# Altium footprint library connector.PcbLib: 49 footprints (part 3 of 4)
Each footprint in its own frame and in the unit in brackets; x right, y up, seen from the top. Pads: shape width x height; smd on the part's side, far side on the other; paste and mask are expansions set on the pad; w line width, h text height; cw(c..) or ccw(c..) is an arc to the next point about the centre after c.
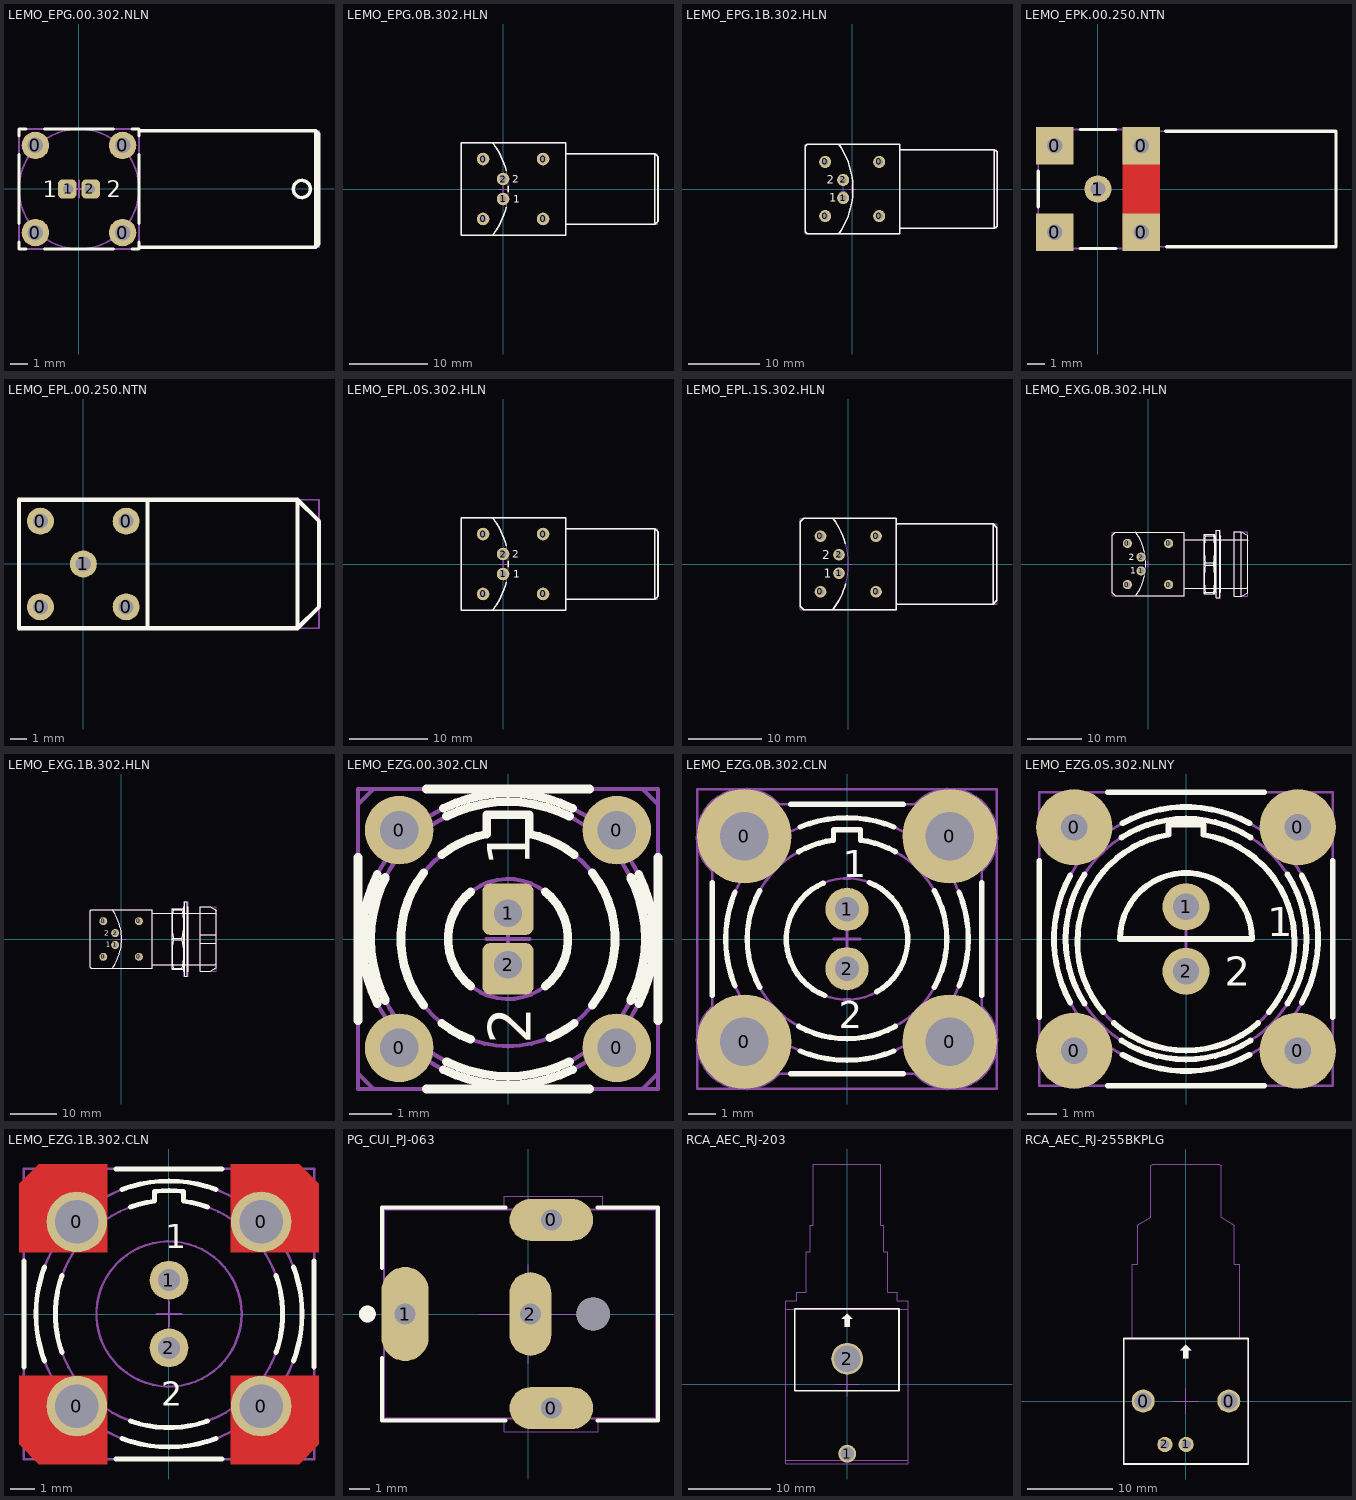
[diagram p2: the footprints below, top view; thin cyan lines are the x and y axes]

## LEMO_EPG.00.302.NLN [mm] "Multipole 2 Contacts, 50 Ohm size 00 Coaxial Elbow (90°) Socket With Key"
height 7
pads (6):
  round 1.6 hole 0.9: 0(-2.54,-2.54) 0(-2.54,2.54) 0(2.54,-2.54) 0(2.54,2.54)
  rrect50% 1.1x1.1 hole 0.6 copper offset -0.05,0: 1(-0.635,0)
  rrect50% 1.1x1.1 hole 0.6 copper offset 0.05,0: 2(0.635,0)
Top Overlay:
  circle w0.2: c13,0 r0.5
  lines w0.2: -3.5,-3.1 -3.5,-3.5 -3.1,-3.5 ; -3.5,-2 -3.5,2 ; -3.5,3.1 -3.5,3.5 -3.1,3.5 ; -2,-3.5 2,-3.5 ; -2,3.5 2,3.5 ; 3.1,-3.5 3.5,-3.5 3.5,-3.1 ; 3.1,3.5 3.5,3.5 3.5,3.1 ; 3.5,-3.4 13.8,-3.4 ; 3.5,-2 3.5,2 ; 3.5,3.399 13.8,3.4 ; 13.8,-3.4 14,-3.2 14,3.2 13.8,3.4 ; 13.8,-3.4 13.8,3.4
  text "1" at -2.119,-0.48 h0.97
  text "2" at 1.613,-0.473 h0.97
Mechanical 1:
  circle w0.1: c0,0 r3.5
  circle w0.1: c13,0 r0.5
  lines w0.1: 3.5,-3.4 13.8,-3.4 ; 3.5,3.399 13.8,3.4 ; 13.8,-3.4 14,-3.2 14,3.2 13.8,3.4 ; 13.8,-3.4 13.8,3.4 ; -3.5,-3.5 3.5,-3.5 3.5,3.5 -3.5,3.5 -3.5,-3.5
  text "1" at -2.119,-0.48 h0.97
  text "2" at 1.613,-0.473 h0.97
Mechanical 15:
  lines w0.1: -0.5,0 0,0 ; 0,-0.5 0,0 ; 0,0.5 0,0 ; 0.5,0 0,0 ; 3.5,-3.4 14,-3.4 14,3.4 ; 3.5,3.399 14,3.4 ; 14,3.4 14,3.4 ; -3.5,-3.5 3.5,-3.5 3.5,3.5 -3.5,3.5 -3.5,-3.5
3D body "LEMO_EPG.00.302.NLN.stp": height 7, standoff -3, extent -3.5,-3.5 14,3.5

## LEMO_EPG.0B.302.HLN [mm] "Elbow Receptacle (90°) With 2 Female Contacts and Key (G) For PCB"
height 12.7
pads (6):
  round 1.6 hole 0.9: 0(-2.54,-3.81) 0(-2.54,3.81) 0(5.08,-3.81) 0(5.08,3.81) 1(0,-1.27) 2(0,1.27)
Top Overlay:
  lines w0.2: -1.32,-5.85 ccw(c-8.876,0) 0.386,-2.353 ; -1.32,5.85 cw(c-8.876,0) 0.386,2.353 ; 0.674,-0.338 ccw(c-8.876,0) 0.674,0.338 ; 7.98,-4.5 19.28,-4.5 ; 7.98,4.5 19.28,4.5 ; 19.28,-4.5 19.28,4.5 ; 19.28,-4.5 19.68,-4.1 19.68,4.1 19.28,4.5 ; -5.32,-5.85 7.98,-5.85 7.98,5.85 -5.32,5.85 -5.32,-5.85
  text "1" at 1.275,-1.75 h0.97
  text "2" at 1.186,0.787 h0.97
Mechanical 1:
  circle w0.1: c-2.54,3.81 r0.4
  circle w0.1: c-2.54,-3.81 r0.4
  circle w0.1: c0,-1.27 r0.4
  circle w0.1: c0,1.27 r0.4
  circle w0.1: c5.08,3.81 r0.4
  circle w0.1: c5.08,-3.81 r0.4
  lines w0.1: -1.32,-5.85 ccw(c-8.876,0) -1.32,5.85 ; 7.98,-4.5 19.28,-4.5 ; 7.98,4.5 19.28,4.5 ; 19.28,-4.5 19.28,4.5 ; 19.28,-4.5 19.68,-4.1 19.68,4.1 19.28,4.5 ; -5.32,-5.85 -5.32,5.85 7.98,5.85 7.98,-5.85 -5.32,-5.85
  text "1" at 1.275,-1.75 h0.97
  text "2" at 1.186,0.787 h0.97
Mechanical 15:
  lines w0.1: -0.5,0 0,0 ; 0,-0.5 0,0 ; 0,0.5 0,0 ; 0.5,0 0,0 ; 7.975,-4.5 19.675,-4.5 19.675,4.5 7.975,4.5 ; -5.325,-5.85 7.975,-5.85 7.975,5.85 -5.325,5.85 -5.325,-5.85
3D body "LEMO_EPG.0B.302.HLN.stp": height 12.7, standoff -4, extent -5.32,-5.85 19.68,5.85

## LEMO_EPG.1B.302.HLN [mm] "Elbow Receptacle (90°) With 2 Female Contacts and Key For PCB"
height 14
pads (6):
  round 1.7 hole 1: 0(-3.81,-3.81) 0(-3.81,3.81) 0(3.81,-3.81) 0(3.81,3.81) 1(-1.27,-1.27) 2(-1.27,1.27)
Top Overlay:
  lines w0.2: -1.875,-6.3 ccw(c-10.879,0) -1.875,6.3 ; 6.71,-5.5 20.01,-5.5 ; 6.71,5.5 20.01,5.5 ; 20.01,-5.5 20.01,5.5 ; 20.01,-5.5 20.41,-5.26 20.41,5.26 20.01,5.5 ; -6.59,-6.05 -6.34,-6.3 6.71,-6.3 6.71,6.3 -6.34,6.3 -6.59,6.05 -6.59,-6.05
  text "2" at -3.577,0.712 h1.2
  text "1" at -3.237,-1.788 h1.2
Mechanical 1:
  lines w0.1: -1.875,-6.3 ccw(c-10.879,0) -1.875,6.3 ; -1.8,-0.591 cw(c-1.27,-1.121) -0.74,-0.591 ; -1.27,-0.371 -1.27,0.52 ; 6.71,-5.5 20.01,-5.5 ; 6.71,5.5 20.01,5.5 ; 20.01,-5.5 20.01,5.5 ; 20.01,-5.5 20.41,-5.26 20.41,5.26 20.01,5.5 ; -6.59,-6.05 -6.59,6.05 -6.34,6.3 6.71,6.3 6.71,-6.3 -6.34,-6.3 -6.59,-6.05
  text "2" at -3.577,0.712 h1.2
  text "1" at -3.237,-1.788 h1.2
Mechanical 15:
  lines w0.1: -0.5,0 0,0 ; 0,-0.5 0,0 ; 0,0.5 0,0 ; 0.5,0 0,0 ; 6.705,-5.497 20.406,-5.497 20.406,5.503 6.705,5.503 ; -6.595,-6.297 -6.595,6.303 6.705,6.303 6.705,-6.297 -6.595,-6.297
3D body "LEMO_EPG.1B.302.HLN.stp": height 14, standoff -3.2, extent -6.59,-6.3 20.41,6.3

## LEMO_EPK.00.250.NTN [mm] "50 Ohm size 00 Coaxial Elbow (90°) socket"
height 7
pads (5):
  rect 2.2x2.2 / inner round 1.6 / far side round 1.6 hole 0.9: 0(-2.54,-2.54) 0(-2.54,2.54) 0(2.54,-2.54) 0(2.54,2.54)
  round 1.6 hole 0.9: 1(0,0)
Top Layer:
  rectangle: 1.44,-3.64 3.64,3.64
Top Overlay:
  lines w0.2: -3.5,-1.05 -3.5,1.05 ; -1.05,-3.5 1.05,-3.5 ; -1.05,3.5 1.05,3.5 ; 4,3.4 14,3.4 14,-3.4 4.05,-3.4
Mechanical 1:
  lines w0.1: 1.5,-3.5 3.5,-3.5 ; 3.5,-3.4 14,-3.4 14,3.4 3.5,3.4 ; 3.5,-3.5 3.5,3.5 ; 3.5,-3.5 -3.5,-3.5 -3.5,3.5 3.5,3.5 ; 3.5,-3.5 3.5,3.5
Mechanical 15:
  lines w0.1: -0.5,0 0,0 ; 0,-0.5 0,0 ; 0,0.5 0,0 ; 0.5,0 0,0 ; 1.5,-3.5 3.5,-3.5 ; 3.5,-3.4 14,-3.4 14,3.4 3.5,3.4 ; 3.5,-3.5 3.5,3.5 ; 3.5,-3.5 -3.5,-3.5 -3.5,3.5 3.5,3.5 ; 3.5,-3.5 3.5,3.5
3D body "LEMO_EPK.00.250.NTN.stp": height 7, standoff -3, extent -3.5,-3.5 14,3.5

## LEMO_EPL.00.250.NTN [mm] "50 Ohm size 00 Coaxial Elbow (90°) socket"
height 7
pads (5):
  round 1.6 hole 0.9: 0(-2.54,-2.54) 0(-2.54,2.54) 0(2.54,-2.54) 0(2.54,2.54) 1(0,0)
Top Overlay:
  lines w0.254: 3.81,-3.81 -3.81,-3.81 -3.81,3.81 3.81,3.81 ; 3.81,-3.81 3.81,3.81 ; 3.81,-3.81 12.7,-3.81 ; 3.81,3.81 12.7,3.81 ; 12.7,-3.81 12.7,3.81 ; 12.7,-3.81 13.97,-2.54 13.97,2.54 12.7,3.81
Mechanical 1:
  lines w0.1: 3.81,-3.81 12.7,-3.81 ; 3.81,-3.81 -3.81,-3.81 -3.81,3.81 3.81,3.81 ; 3.81,-3.81 3.81,3.81 ; 3.81,3.81 12.7,3.81 ; 12.7,-3.81 12.7,3.81 ; 12.7,-3.81 13.97,-2.54 13.97,2.54 12.7,3.81
Mechanical 15:
  lines w0.1: -0.5,0 0,0 ; 0,-0.5 0,0 ; 0,0.5 0,0 ; 0.5,0 0,0 ; 3.81,-3.81 3.81,3.81 ; 3.81,-3.81 -3.81,-3.81 -3.81,3.81 3.81,3.81 ; 3.81,-3.81 13.97,-3.81 13.97,3.81 13.652,3.81 3.81,3.81
3D body "LEMO_EPL.00.250.NTN.stp": height 7, standoff -3, extent -3.5,-3.5 14,3.5

## LEMO_EPL.0S.302.HLN [mm] "Elbow Receptacle (90°) With 1 Female + 1 Male Contacts and Hermaphroditic Keying"
height 12.7
pads (6):
  round 1.6 hole 0.9: 0(-2.54,-3.81) 0(-2.54,3.81) 0(5.08,-3.81) 0(5.08,3.81) 1(0,-1.27) 2(0,1.27)
Top Overlay:
  lines w0.2: -1.32,-5.85 ccw(c-8.876,0) 0.386,-2.353 ; -1.32,5.85 cw(c-8.876,0) 0.386,2.353 ; 0.674,-0.338 ccw(c-8.876,0) 0.674,0.338 ; 7.98,-4.5 19.28,-4.5 ; 7.98,4.5 19.28,4.5 ; 19.28,-4.5 19.68,-4.1 19.68,4.1 19.28,4.5 ; 19.28,-4.5 19.28,4.5 ; -5.32,-5.85 -5.32,5.85 7.98,5.85 7.98,-5.85 -5.32,-5.85
  text "2" at 1.186,0.787 h0.97
  text "1" at 1.275,-1.75 h0.97
Mechanical 1:
  circle w0.1: c-2.54,-3.81 r0.4
  circle w0.1: c-2.54,3.81 r0.4
  circle w0.1: c0,1.27 r0.4
  circle w0.1: c0,-1.27 r0.4
  circle w0.1: c5.08,-3.81 r0.4
  circle w0.1: c5.08,3.81 r0.4
  lines w0.1: -1.32,-5.85 ccw(c-8.876,0) -1.32,5.85 ; 7.98,-4.5 19.28,-4.5 ; 7.98,4.5 19.28,4.5 ; 19.28,-4.5 19.28,4.5 ; 19.28,-4.5 19.68,-4.1 19.68,4.1 19.28,4.5 ; -5.32,-5.85 -5.32,5.85 7.98,5.85 7.98,-5.85 -5.32,-5.85
  text "1" at 1.275,-1.75 h0.97
  text "2" at 1.186,0.787 h0.97
Mechanical 15:
  lines w0.1: -0.5,0 0,0 ; 0,-0.5 0,0 ; 0,0.5 0,0 ; 0.5,0 0,0 ; 7.975,-4.5 19.675,-4.5 19.675,4.5 7.975,4.5 ; -5.325,-5.85 -5.325,5.85 7.975,5.85 7.975,-5.85 -5.325,-5.85
3D body "LEMO_EPL.0S.302.HLN.stp": height 12.7, standoff -4, extent -5.32,-5.85 19.68,5.85

## LEMO_EPL.1S.302.HLN [mm] "Elbow Socket (90°) With 1 Female + 1 Male Contacts For PCB, Serie 1S"
height 14
pads (6):
  round 1.6 hole 0.9: 0(-3.81,-3.81) 0(-3.81,3.81) 0(3.81,-3.81) 0(3.81,3.81) 1(-1.27,-1.27) 2(-1.27,1.27)
Top Overlay:
  lines w0.2: -2.132,-6.3 ccw(c-10.375,0) -0.354,-2.685 ; -2.132,6.3 cw(c-10.375,0) -0.387,2.804 ; 6.6,-5.5 19.9,-5.5 ; 6.6,5.5 19.9,5.5 ; 19.9,-5.5 19.9,5.5 ; 19.9,-5.5 20.4,-5 20.4,5 19.9,5.5 ; -6.6,-5.8 -6.6,5.8 -6.1,6.3 6.6,6.3 6.6,-6.3 -6.1,-6.3 -6.6,-5.8
  text "2" at -3.57,0.67 h1.2
  text "1" at -3.37,-1.87 h1.2
Mechanical 1:
  lines w0.1: -2.132,-6.3 ccw(c-10.375,0) -2.132,6.3 ; 6.6,-5.5 19.9,-5.5 ; 6.6,5.5 19.9,5.5 ; 19.9,-5.5 20.4,-5 20.4,5 19.9,5.5 ; 19.9,-5.5 19.9,5.5 ; -6.6,-5.8 -6.1,-6.3 6.6,-6.3 6.6,6.3 -6.1,6.3 -6.6,5.8 -6.6,-5.8
  text "1" at -3.37,-1.87 h1.2
  text "2" at -3.57,0.67 h1.2
Mechanical 15:
  lines w0.1: -0.5,0 0,0 ; 0,-0.5 0,0 ; 0,0.5 0,0 ; 0.5,0 0,0 ; 6.6,-5.5 20.4,-5.5 20.4,5.5 6.6,5.5 ; -6.6,-6.3 -6.6,6.3 6.6,6.3 6.6,-6.3 -6.6,-6.3
3D body "LEMO_EPL.1S.302.HLN.stp": height 14, standoff -4, extent -6.6,-6.3 20.4,6.3

## LEMO_EXG.0B.302.HLN [mm] "Size 0B, 2 Female Contacts Elbow Receptacle (90°) With Alignment Key and Two Nuts (For Back Panel Mounting)"
height 13.15
pads (6):
  round 1.7 hole 1: 0(-3.81,-3.81) 0(-3.81,3.81) 0(3.81,-3.81) 0(3.81,3.81) 1(-1.27,-1.27) 2(-1.27,1.27)
Top Overlay:
  lines w0.2: -2.246,-5.85 ccw(c-10.539,0) -0.622,-2.159 ; -2.246,5.85 cw(c-10.539,0) -0.622,2.159 ; -0.407,-0.588 ccw(c-10.539,0) -0.407,0.588 ; 6.71,-4.5 18.16,-4.5 18.41,-4.25 18.41,4.25 18.16,4.5 6.71,4.5 ; 10.615,-5.5 10.615,-5.228 ; 10.615,5.5 10.615,5.228 ; 12.105,-5.5 12.105,-5.228 ; 12.105,5.5 12.105,5.228 ; 12.61,-5.35 12.41,-5.17 12.41,5.17 12.61,5.35 ; 13.21,-5.35 13.41,-5.17 13.41,5.17 13.21,5.35 ; 10.615,-5.228 cw(c22.542,-2.75) 10.615,-0.272 ; 10.615,-5.228 12.105,-5.228 ; 10.615,-0.272 10.615,0.272 ; 10.615,-0.272 12.105,-0.272 ; 10.615,0.272 cw(c22.542,2.75) 10.615,5.228 ; 10.615,0.272 12.105,0.272 ; 10.615,5.228 12.105,5.228 ; 12.105,-5.228 ccw(c0.178,-2.75) 12.105,-0.272 ; 12.105,-0.272 12.105,0.272 ; 12.105,0.272 ccw(c0.178,2.75) 12.105,5.228 ; 17.26,-5.953 17.26,5.953 ; 17.26,-5.953 18.41,-5.283 18.41,5.283 17.26,5.953 ; 17.26,-5.953 15.91,-5.953 15.91,5.953 17.26,5.953 ; -6.59,-5.35 -6.59,5.35 -6.09,5.85 6.71,5.85 6.71,-5.85 -6.09,-5.85 -6.59,-5.35 ; 10.36,-5.5 10.36,5.5 12.36,5.5 12.36,-5.5 10.36,-5.5 ; 12.61,-6.25 13.21,-6.25 13.21,6.25 12.61,6.25 12.61,-6.25
  text "2" at -3.577,0.712 h1.2
  text "1" at -3.237,-1.788 h1.2
Mechanical 1:
  lines w0.1: -2.246,-5.85 ccw(c-10.539,0) -2.246,5.85 ; 6.71,-4.5 18.16,-4.5 18.41,-4.25 18.41,4.25 18.16,4.5 6.71,4.5 ; 10.615,-5.5 10.615,-5.228 ; 10.615,5.5 10.615,5.228 ; 12.105,-5.5 12.105,-5.228 ; 12.105,5.5 12.105,5.228 ; 12.61,-5.35 12.41,-5.17 12.41,5.17 12.61,5.35 ; 13.21,-5.35 13.41,-5.17 13.41,5.17 13.21,5.35 ; 10.615,-5.228 cw(c22.542,-2.75) 10.615,-0.272 ; 10.615,-5.228 12.105,-5.228 ; 10.615,-0.272 12.105,-0.272 ; 10.615,-0.272 10.615,0.272 ; 10.615,0.272 cw(c22.542,2.75) 10.615,5.228 ; 10.615,0.272 12.105,0.272 ; 10.615,5.228 12.105,5.228 ; 12.105,-5.228 ccw(c0.178,-2.75) 12.105,-0.272 ; 12.105,-0.272 12.105,0.272 ; 12.105,0.272 ccw(c0.178,2.75) 12.105,5.228 ; 17.26,-5.953 15.91,-5.953 15.91,5.953 17.26,5.953 ; 17.26,-5.953 18.41,-5.283 18.41,5.283 17.26,5.953 ; 17.26,-5.953 17.26,5.953 ; -6.59,-5.35 -6.09,-5.85 6.71,-5.85 6.71,5.85 -6.09,5.85 -6.59,5.35 -6.59,-5.35 ; 10.36,-5.5 12.36,-5.5 12.36,5.5 10.36,5.5 10.36,-5.5 ; 12.61,-6.25 13.21,-6.25 13.21,6.25 12.61,6.25 12.61,-6.25
  text "1" at -3.237,-1.788 h1.2
  text "2" at -3.577,0.712 h1.2
Mechanical 15:
  lines w0.1: -0.5,0 0,0 ; 0,-0.5 0,0 ; 0,0.5 0,0 ; 0.5,0 0,0 ; 18.41,-4.25 18.41,4.25 ; -6.59,-5.85 6.71,-5.85 6.71,-4.5 10.36,-4.5 10.36,-5.5 12.61,-5.5 12.61,-6.25 13.41,-6.25 13.41,-4.5 15.91,-4.5 15.91,-5.953 18.41,-5.953 18.41,5.953 15.91,5.953 15.91,4.5 13.41,4.5 13.41,6.25 12.61,6.25 12.61,5.5 10.36,5.5 10.36,4.5 6.71,4.5 6.71,5.85 -6.59,5.85 -6.59,-5.85
3D body "LEMO_EXG.0B.302.HLN_Part3.stp": height 12.95, standoff 0.45, extent 10.36,-6.247 13.41,6.247
3D body "LEMO_EXG.0B.302.HLN_Part2.stp": height 12.65, standoff 0.75, extent 15.91,-5.953 18.41,5.953
3D body "LEMO_EXG.0B.302.HLN_Part1.stp": height 12.7, standoff -3.2, extent -6.59,-5.85 18.41,5.85

## LEMO_EXG.1B.302.HLN [mm] "Size 1B, 2 Female Contacts Elbow Receptacle (90°) With Alignment Key and Two Nuts (For Back Panel Mounting)"
height 16
pads (6):
  round 1.7 hole 1: 0(-3.81,-3.81) 0(-3.81,3.81) 0(3.81,-3.81) 0(3.81,3.81) 1(-1.27,-1.27) 2(-1.27,1.27)
Top Overlay:
  lines w0.2: -1.875,-6.3 ccw(c-10.879,0) -1.875,6.3 ; 6.71,-5.5 20.01,-5.5 20.41,-5.26 20.41,5.26 20.01,5.5 6.71,5.5 ; 11.206,-6.5 11.206,-6.313 ; 11.206,6.5 11.206,6.313 ; 13.104,-6.5 13.104,-6.313 ; 13.104,6.5 13.104,6.313 ; 13.61,7.05 13.41,6.946 13.41,-6.94 13.621,-7.049 ; 14.21,-7.05 14.41,-6.94 14.41,6.946 14.21,7.05 ; 16.91,-0.9 20.41,-0.9 ; 16.91,0.9 20.41,0.9 ; 11.206,-6.313 cw(c26.648,-3.25) 11.206,-0.187 ; 11.206,-6.313 13.104,-6.313 ; 11.206,-0.187 13.104,-0.187 ; 11.206,-0.187 11.206,0.187 ; 11.206,0.187 cw(c26.648,3.25) 11.206,6.313 ; 11.206,0.187 13.104,0.187 ; 11.206,6.313 13.104,6.313 ; 13.104,-6.313 ccw(c-2.338,-3.25) 13.104,-0.187 ; 13.104,-0.187 13.104,0.187 ; 13.104,0.187 ccw(c-2.338,3.25) 13.104,6.313 ; -6.59,-6.05 -6.59,6.05 -6.34,6.3 6.71,6.3 6.71,-6.3 -6.34,-6.3 -6.59,-6.05 ; 10.905,-6.5 13.405,-6.5 13.405,6.5 10.905,6.5 10.905,-6.5 ; 13.61,-8 14.21,-8 14.21,8 13.61,8 13.61,-8 ; 16.91,-6.942 16.91,6.942 19.06,6.942 20.41,6.155 20.41,-6.155 19.06,-6.942 16.91,-6.942
  text "1" at -3.237,-1.788 h1.2
  text "2" at -3.577,0.712 h1.2
Mechanical 1:
  lines w0.1: -1.875,-6.3 ccw(c-10.879,0) -1.875,6.3 ; 6.71,-5.5 20.01,-5.5 20.41,-5.26 20.41,5.26 20.01,5.5 6.71,5.5 ; 11.206,-6.5 11.206,-6.313 ; 11.206,6.5 11.206,6.313 ; 13.104,-6.5 13.104,-6.313 ; 13.104,6.5 13.104,6.313 ; 13.61,7.05 13.41,6.946 13.41,-6.94 13.621,-7.049 ; 14.21,-7.05 14.41,-6.94 14.41,6.946 14.21,7.05 ; 16.91,-0.9 20.41,-0.9 ; 16.91,0.9 20.41,0.9 ; 11.206,-6.313 cw(c26.648,-3.25) 11.206,-0.187 ; 11.206,-6.313 13.104,-6.313 ; 11.206,-0.187 11.206,0.187 ; 11.206,-0.187 13.104,-0.187 ; 11.206,0.187 cw(c26.648,3.25) 11.206,6.313 ; 11.206,0.187 13.104,0.187 ; 11.206,6.313 13.104,6.313 ; 13.104,-6.313 ccw(c-2.338,-3.25) 13.104,-0.187 ; 13.104,-0.187 13.104,0.187 ; 13.104,0.187 ccw(c-2.338,3.25) 13.104,6.313 ; -6.59,-6.05 -6.59,6.05 -6.34,6.3 6.71,6.3 6.71,-6.3 -6.34,-6.3 -6.59,-6.05 ; 10.905,-6.5 10.905,6.5 13.405,6.5 13.405,-6.5 10.905,-6.5 ; 13.61,-8 13.61,8 14.21,8 14.21,-8 13.61,-8 ; 16.91,-6.942 16.91,6.942 19.06,6.942 20.41,6.155 20.41,-6.155 19.06,-6.942 16.91,-6.942
  text "2" at -3.577,0.712 h1.2
  text "1" at -3.237,-1.788 h1.2
Mechanical 15:
  lines w0.1: -1,0 0,0 ; 0,-1 0,0 ; 0,1 0,0 ; 1,0 0,0 ; 13.405,6.5 10.905,6.5 10.905,5.5 6.71,5.5 6.71,6.3 -6.59,6.3 -6.59,-6.3 6.71,-6.3 6.71,-5.5 10.905,-5.5 10.905,-6.5 13.405,-6.5 13.405,-8 14.41,-8 14.41,-5.5 16.91,-5.5 16.91,-6.942 20.41,-6.942 20.41,6.942 16.91,6.942 16.91,5.5 14.41,5.5 14.41,8 13.41,8 13.41,6.505 ; 20.41,-5.26 20.41,5.26
3D body "LEMO_EXG.1B.302.HLN_Part3.stp": height 15.5, standoff -0.5, extent 10.905,-7.975 14.41,8.025
3D body "LEMO_EXG.1B.302.HLN_Part2.stp": height 14.44, standoff 0.56, extent 16.91,-6.942 20.41,6.942
3D body "LEMO_EXG.1B.302.HLN_Part1.stp": height 14, standoff -3.2, extent -6.59,-6.3 20.41,6.3

## LEMO_EZG.00.302.CLN [mm] "Size 00, Straight Receptacle with 2 Female Contacts and Alignment Key (G)"
height 14
pads (6):
  round 1.6 hole 0.9: 0(-2.54,-2.54) 0(-2.54,2.54) 0(2.54,-2.54) 0(2.54,2.54)
  rrect30% 1.2x1.2 hole 0.65 copper offset 0,0.095: 1(0,0.6)
  rrect30% 1.2x1.2 hole 0.65 copper offset 0,-0.095: 2(0,-0.6)
Top Overlay:
  lines w0.2: -3.5,-1.907 -3.5,1.907 ; -3.047,-1.508 cw(c0,0) -3.047,1.508 ; -2.86,-1.435 cw(c0,0) -2.86,1.435 ; -1.967,-1.543 cw(c0,0) -1.967,1.543 ; -1.907,-3.5 1.907,-3.5 ; -1.907,3.5 1.907,3.5 ; -1.543,-1.967 ccw(c0,0) -0.872,-2.343 ; -1.543,1.967 cw(c0,0) -0.5,2.449 -0.5,2.9 0.5,2.9 0.5,2.449 cw(c0,0) 1.543,1.967 ; -1.508,-3.047 ccw(c0,0) 1.508,-3.047 ; -1.508,3.047 cw(c0,0) 1.508,3.047 ; -1.435,-2.86 ccw(c0,0) 1.435,-2.86 ; -1.435,2.86 cw(c0,0) 1.435,2.86 ; -0.866,-1.1 cw(c0,0) -0.866,1.1 ; 0.866,-1.1 ccw(c0,0) 0.866,1.1 ; 0.976,-2.302 ccw(c0,0) 1.543,-1.967 ; 1.967,-1.543 ccw(c0,0) 1.967,1.543 ; 2.86,-1.435 ccw(c0,0) 2.86,1.435 ; 3.047,-1.508 ccw(c0,0) 3.047,1.508 ; 3.5,-1.907 3.5,1.907
  text "2" at 0.533,-2.459 h1
  text "1" at 0.507,1.698 h1
Mechanical 1:
  circle w0.1: c0,0 r1.4
  circle w0.1: c0,0 r3.2
  circle w0.1: c0,0 r3.4
  circle w0.1: c0,0.6 r0.3
  circle w0.1: c0,-0.6 r0.3
  circle w0.1: c0,-0.6 r0.2
  circle w0.1: c0,0.6 r0.2
  lines w0.1: -3.5,-3.137 -3.5,3.137 -3.137,3.5 3.137,3.5 3.5,3.137 3.5,-3.137 3.137,-3.5 -3.137,-3.5 -3.5,-3.137 ; -0.5,2.449 ccw(c0,0) 0.5,2.449 0.5,2.9 -0.5,2.9 -0.5,2.449
  text "1" at 0.507,1.698 h1
  text "2" at 0.533,-2.459 h1
Mechanical 15:
  lines w0.1: -0.5,0 0,0 ; 0,-0.5 0,0 ; 0,0.5 0,0 ; 0.5,0 0,0 ; -3.5,-3.5 3.5,-3.5 3.5,3.5 -3.5,3.5 -3.5,-3.5
3D body "LEMO_EZG.00.302.CLN.stp": height 14, standoff -3, extent -3.5,-3.5 3.501,3.502

## LEMO_EZG.0B.302.CLN [mm] "Size 0B, Straight Receptacle with 2 Female Contacts and Alignment Key (G)"
height 15
pads (6):
  round 3.5 hole 1.8: 0(-3.81,-3.81) 0(-3.81,3.81) 0(3.81,-3.81) 0(3.81,3.81)
  round 1.6 hole 0.9: 1(0,1.1) 2(0,-1.1)
Top Overlay:
  lines w0.2: -5,-2.08 -5,2.08 ; -4.151,-1.738 cw(c0,0) -4.151,1.738 ; -3.239,-1.789 cw(c0,0) -3.239,1.789 ; -2.08,-5 2.08,-5 ; -2.08,5 2.08,5 ; -1.789,-3.239 ccw(c0,0) 1.789,-3.239 ; -1.789,3.239 cw(c0,0) -0.5,3.666 -0.5,4.05 0.5,4.05 0.5,3.666 cw(c0,0) 1.789,3.239 ; -1.738,-4.151 ccw(c0,0) 1.738,-4.151 ; -1.738,4.151 cw(c0,0) 1.738,4.151 ; -0.883,2.069 ccw(c0,0) -0.827,-2.093 ; 0.823,2.094 cw(c0,0) 1.103,-1.961 ; 3.239,-1.789 ccw(c0,0) 3.239,1.789 ; 4.151,-1.738 ccw(c0,0) 4.151,1.738 ; 5,-2.08 5,2.08
  text "1" at -0.162,2.293 h1
  text "2" at -0.299,-3.308 h1
Mechanical 1:
  circle w0.1: c0,-1.1 r0.35
  circle w0.1: c0,-1.1 r0.55
  circle w0.1: c0,0 r2.25
  circle w0.1: c0,0 r4.5
  circle w0.1: c0,1.1 r0.35
  circle w0.1: c0,1.1 r0.55
  lines w0.1: -5,-2.527 ccw(c-3.81,-3.81) -2.527,-5 ; -5,2.527 cw(c-3.81,3.81) -2.527,5 ; 2.527,-5 ccw(c3.81,-3.81) 5,-2.527 ; 2.527,5 cw(c3.81,3.81) 5,2.527 ; -5,-4.346 -4.346,-5 4.346,-5 5,-4.346 5,4.346 4.346,5 -4.346,5 -5,4.346 -5,-4.346 ; -0.5,3.666 ccw(c0,0) 0.5,3.666 0.5,4.05 -0.5,4.05 -0.5,3.666
  text "2" at -0.299,-3.308 h1
  text "1" at -0.162,2.293 h1
Mechanical 15:
  lines w0.1: -0.5,0 0,0 ; 0,-0.5 0,0 ; 0,0.5 0,0 ; 0.5,0 0,0 ; -5.55,-5.55 -5.55,5.55 5.55,5.55 5.55,-5.55 -5.55,-5.55
3D body "LEMO_EZG.0B.302.CLN_Part1.stp": height 15, standoff -4.5, extent -5,-5 5,5
3D body "LEMO_EZG.0B.302.CLN_Part2.stp": height 3.9, standoff -3.7, extent -5.56,2.06 -2.06,5.56
3D body "LEMO_EZG.0B.302.CLN_Part2.stp": height 3.9, standoff -3.7, extent 2.06,2.06 5.56,5.56
3D body "LEMO_EZG.0B.302.CLN_Part2.stp": height 3.9, standoff -3.7, extent -5.56,-5.56 -2.06,-2.06
3D body "LEMO_EZG.0B.302.CLN_Part2.stp": height 3.9, standoff -3.7, extent 2.06,-5.56 5.56,-2.06

## LEMO_EZG.0S.302.NLNY [mm] "Serie 0S, 1 Female + 1 Male Contacts, Straight Socket With Key (G)"
height 15.8
pads (6):
  round 2.6 / inner round 1.6 / far side round 1.6 hole 0.9: 0(-3.81,-3.81) 0(-3.81,3.81) 0(3.81,-3.81) 0(3.81,3.81)
  round 1.6 hole 0.9: 1(0,1.1) 2(0,-1.1)
Top Overlay:
  lines w0.2: -5,-2.667 -5,2.667 ; -3.945,-2.166 cw(c0,0) -3.945,2.166 ; -3.462,-2.197 cw(c0,0) -3.462,2.197 ; -2.832,-2.481 cw(c0,-0.1) -0.6,3.551 -0.6,3.9 0.6,3.9 0.6,3.551 cw(c0,-0.1) 2.832,-2.481 ; -2.667,-5 2.667,-5 ; -2.667,5 2.667,5 ; -2.456,-2.868 ccw(c0,-0.1) 2.455,-2.868 ; -2.197,-3.462 ccw(c0,0) 2.197,-3.462 ; -2.197,3.462 cw(c0,0) 2.197,3.462 ; -2.166,-3.945 ccw(c0,0) 2.165,-3.945 ; -2.166,3.945 cw(c0,0) 2.165,3.945 ; 3.461,-2.197 ccw(c0,0) 3.461,2.197 ; 3.945,-2.166 ccw(c0,0) 3.945,2.166 ; 5,-2.667 5,2.667 ; -2.25,0 cw(c0,0) 2.25,0 -2.25,0
  text "1" at 2.764,0.091 h1
  text "2" at 1.326,-1.598 h1
Mechanical 1:
  circle w0.1: c0,-1.1 r0.5
  circle w0.1: c0,1.1 r0.55
  circle w0.1: c0,0 r4.1
  circle w0.1: c0,0 r4.5
  lines w0.1: -0.5,-1.1 0.5,-1.1 ; -0.49,-1.2 0.49,-1.2 ; -0.49,-1 0.49,-1 ; -0.458,-1.3 0.458,-1.3 ; -0.458,-0.9 0.458,-0.9 ; -0.4,-1.4 0.4,-1.4 ; -0.4,-0.8 0.4,-0.8 ; -0.3,-1.5 0.3,-1.5 ; -0.3,-0.7 0.3,-0.7 ; -5,-4.293 -5,4.293 -4.293,5 4.293,5 5,4.293 5,-4.293 4.293,-5 -4.293,-5 -5,-4.293 ; -2.25,0 cw(c0,0) 2.25,0 -2.25,0 ; -0.6,3.551 ccw(c0,-0.1) 0.6,3.551 0.6,3.9 -0.6,3.9 -0.6,3.551
  text "2" at 1.326,-1.598 h1
  text "1" at 2.764,0.091 h1
Mechanical 15:
  lines w0.1: -0.5,0 0,0 ; 0,-0.5 0,0 ; 0,0.5 0,0 ; 0.5,0 0,0 ; -5,-5 5,-5 5,5 -5,5 -5,-5
3D body "LEMO_EZG.0S.302.NLNY.stp": height 15.8, standoff -4, extent -5.01,-5.004 5.004,5.002

## LEMO_EZG.1B.302.CLN [mm] "Size 1B, Straight Socket with 2 Female Contacts and Alignment Key (G)"
height 19
pads (6):
  round 2.5 / inner round 2.5 / far side round 3.7 hole 1.8: 0(-3.81,-3.81) 0(-3.81,3.81) 0(3.81,-3.81) 0(3.81,3.81)
  round 1.6 hole 0.9: 1(0,1.4) 2(0,-1.4)
Top Layer:
  region: -2.55,-2.55 -6.2,-2.55 -6.2,-5.374 -5.374,-6.2 -2.55,-6.2
  region: 2.55,-2.55 2.55,-6.2 5.374,-6.2 6.2,-5.374 6.2,-2.55
  region: 2.55,2.55 6.2,2.55 6.2,5.374 5.374,6.2 2.55,6.2
  region: -2.55,2.55 -2.55,6.2 -5.374,6.2 -6.2,5.374 -6.2,2.55
Top Overlay:
  lines w0.2: -6,-2.2 -6,2.2 ; -5.147,-1.939 cw(c0,0) -5.147,1.939 ; -4.422,-1.593 cw(c0,0) -4.422,1.593 ; -2.2,-6 2.2,-6 ; -2.2,6 2.2,6 ; -1.939,-5.147 ccw(c0,0) 1.939,-5.147 ; -1.939,5.147 cw(c0,0) 1.939,5.147 ; -1.593,-4.422 ccw(c0,0) 1.593,-4.422 ; -1.593,4.422 cw(c0,0) -0.6,4.662 -0.6,5.065 cw(c0,0) 0.6,5.065 0.6,4.662 cw(c0,0) 1.593,4.422 ; 4.422,-1.593 ccw(c0,0) 4.422,1.593 ; 5.147,-1.939 ccw(c0,0) 5.147,1.939 ; 6,-2.2 6,2.2 6,-2.2
  text "2" at -0.318,-3.786 h1
  text "1" at -0.159,2.722 h1
Mechanical 1:
  circle w0.1: c0,-1.4 r0.5
  circle w0.1: c0,0 r5.5
  circle w0.1: c0,1.4 r0.5
  circle w0.1: c0,0 r3
  lines w0.1: 6,-5.292 5.292,-6 -5.292,-6 -6,-5.292 -6,5.292 -5.292,6 5.292,6 6,5.292 ; 6,-5.292 6,5.292 ; 6,-5.292 6,5.292 ; -0.6,4.662 ccw(c0,0) 0.6,4.662 0.6,5.065 ccw(c0,0) -0.6,5.065 -0.6,4.662
  text "1" at -0.159,2.722 h1
  text "2" at -0.318,-3.786 h1
Mechanical 15:
  lines w0.1: -0.5,0 0,0 ; 0,-0.5 0,0 ; 0,0.5 0,0 ; 0.5,0 0,0 ; -6,-6 6,-6 6,6 -6,6 -6,-6
3D body "LEMO_EZG.1B.304.NLN_Part2.stp": height 3.9, standoff -3.2, extent -5.56,-5.56 5.56,5.56
3D body "LEMO_EZG.1B.302.CLN.stp": height 19, standoff -3.8, extent -6,-6 6,6

## PG_CUI_PJ-063 [mm]
pads (5):
  oval 4x2 hole 1 square: 0(1.1,-4.5) 0(1.1,4.5)
  oval 2.25x4.5 hole 1 square: 1(-5.9,0)
  oval 2x4 hole 1 square: 2(0.1,0)
  round 1.6 hole 1.6 unplated: ""(3.1,0)
Top Overlay:
  circle w0.4: c-7.7,0 r0.2
  lines w0.2: -7,-2.1 -7,-5.1 -1.1,-5.1 ; -7,2.2 -7,5.1 -1.1,5.1 ; 3.3,-5.1 6.2,-5.1 6.2,5.099 3.3,5.099
Mechanical 1:
  circle w0.4: c-7.7,0 r0.2
  lines w0.1: -6.9,-5 6.1,-5 6.1,5 -6.9,5 -6.9,-5
Mechanical 15:
  lines w0.05: -2.35,0 2.35,0 ; 0,-2.35 0,2.35 ; -6.9,-5 -1.15,-5 -1.15,-5.625 3.35,-5.625 3.35,-5 6.101,-5 6.101,5 3.55,5 3.55,5.625 -1.15,5.625 -1.15,5 -6.9,5 -6.9,2.7 -6.9,-2 -6.9,-5
3D body "CUI_DEVICES_PJ-063BH.step": height 9, standoff -3, extent -6.9,-5.15 6.1,5.15

## RCA_AEC_RJ-203 [mm]
pads (2):
  round 2.2 hole 1.7: 1(0,-8.5)
  round 3.9 hole 3.2: 2(0,3.1)
Top Overlay:
  region: -0.32,7.988 -0.638,7.988 -0.003,8.623 0.632,7.988 0.315,7.988 0.315,7.035 -0.32,7.035
  lines w0.2: -6.4,-0.8 -6.4,9.2 6.322,9.2 6.322,-0.8 -6.4,-0.8
Mechanical 1:
  region: -0.322,7.989 -0.64,7.989 -0.005,8.624 0.63,7.989 0.313,7.989 0.313,7.036 -0.322,7.036
  lines w0.1: -7.527,9.15 -7.527,10.2 -6.181,10.2 -6.181,11.202 -5,11.202 -5,16.2 -4.5,16.2 -4.5,19.4 -4.151,19.4 -4.151,26.9 4.1,26.9 4.1,19.4 4.449,19.4 4.449,16.2 4.949,16.2 4.949,11.202 6.13,11.202 6.13,10.2 7.476,10.2 7.476,9.15 ; -7.526,-9.3 -7.526,9.15 7.475,9.15 7.475,-9.3 -7.526,-9.3
Mechanical 15:
  lines w0.1: -1.5,0 1.5,0 ; 0,-1.5 0,1.5 ; -7.527,-9.753 -7.527,9.15 7.476,9.15 7.476,-9.753 -7.527,-9.753
3D body "RJ-203_alti2.STEP": height 13.87, standoff -1.98, extent -7.525,-9.3 7.475,26.9

## RCA_AEC_RJ-255BKPLG [mm]
pads (4):
  round 2.7 hole 2: 0(-5.025,0) 0(5.05,0)
  round 1.8 hole 1.1: 1(0.025,-5.1) 2(-2.475,-5.1)
Top Overlay:
  region: -0.335,5.976 -0.653,5.976 -0.018,6.611 0.617,5.976 0.3,5.976 0.3,5.024 -0.335,5.024
  lines w0.2: -7.325,-7.4 -7.325,7.375 7.35,7.375 7.35,-7.4 -7.325,-7.4
Mechanical 1:
  region: -0.335,5.976 -0.653,5.976 -0.018,6.611 0.617,5.976 0.3,5.976 0.3,5.024 -0.335,5.024
  lines w0.1: -6.325,7.375 -6.325,16.1 -5.695,16.1 -5.7,20.7 -4.132,21.612 -4.132,27.7 -3.925,27.9 3.95,27.9 4.15,27.693 4.15,21.605 5.718,20.693 5.713,16.093 6.343,16.093 6.343,7.375 ; -7.325,-7.4 -7.325,7.375 7.35,7.375 7.35,-7.4 -7.325,-7.4
Mechanical 15:
  lines w0.1: -1.5,0 1.5,0 ; 0,-1.5 0,1.5 ; -7.325,-7.4 7.35,-7.4 7.35,7.375 -7.325,7.375 -7.325,-7.4
3D body "User Library-rj255.STEP": height 16.29, standoff -2.19, extent -7.989,-7.412 8.011,27.888